# EAGLE library part RJ45-8 (library custom)
RJ45 Jack Simple RJ45, 8-pin connection - connector for common Cat5, Cat5e, and Cat6 Ethernet cables. Footprint not yet proven in production. Connector sku is PRT-00643; Breakout PCB sku is BOB-00716.
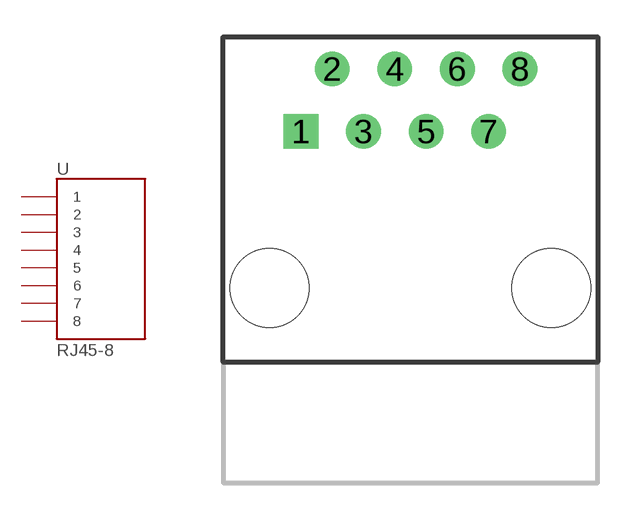
[diagram p10: symbol with the pads of RJ45-8; footprint RJ45-8]

Designator prefix -

## RJ45-8PTH  [RJ45-8]
1  1
2  2
3  3
4  4
5  5
6  6
7  7
8  8

## Footprint RJ45-8 (pad centres in mm)
drill 0.9 square: 1 -4.445,6.36
drill 0.9 round: 2 -3.175,8.9; 3 -1.905,6.36; 4 -0.635,8.9; 5 0.635,6.36; 6 1.905,8.9; 7 3.175,6.36; 8 4.445,8.9
hole 3.2 at -5.715,0
hole 3.2 at 5.715,0